# Altium footprint library DF11-10DP-2DS(24).PcbLib: 1 footprints
Each footprint in its own frame and in the unit in brackets; x right, y up, seen from the top. Pads: shape width x height; smd on the part's side, far side on the other; paste and mask are expansions set on the pad; w line width, h text height; cw(c..) or ccw(c..) is an arc to the next point about the centre after c.
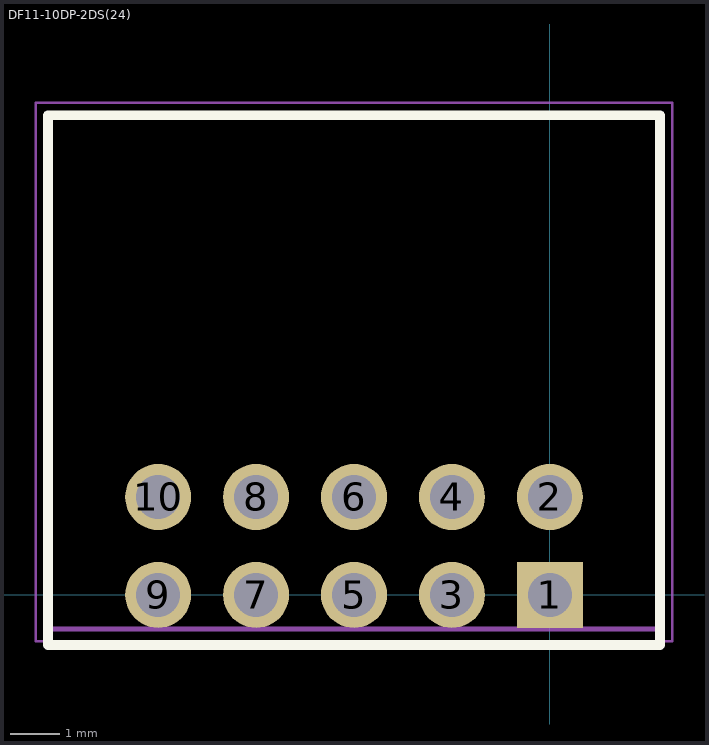
[diagram p0: the footprint, top view; thin cyan lines are the x and y axes]

## DF11-10DP-2DS(24) [mm]
pads (10):
  rect 1.35x1.35 / inner round 1.35 / far side rect 1.35x1.35 hole 0.9: 1(0,0)
  round 1.35 hole 0.9: 2(0,2) 3(-2,0) 4(-2,2) 5(-4,0) 6(-4,2) 7(-6,0) 8(-6,2) 9(-8,0) 10(-8,2)
Top Overlay:
  lines w0.2: -10.25,-1.025 -10.25,9.8 2.25,9.8 2.25,-1.025 -10.25,-1.025
Mechanical 15:
  lines w0.1: -10.25,-0.7 -10.25,9.8 2.25,9.8 2.25,-0.7 -10.25,-0.7
Mechanical 20:
  lines w0.05: -10.5,-0.95 -10.5,10.05 2.5,10.05 2.5,-0.95 -10.5,-0.95
3D body: height 5, standoff 0, extent -10.16,-0.889 2.159,9.652
3D body: height 10, standoff 0, extent 0,0 0,0